# Altium footprint library PCB - CONNECTOR - MOLEX - MOLEX 1053131103.PcbLib: 1 footprints
Each footprint in its own frame and in the unit in brackets; x right, y up, seen from the top. Pads: shape width x height; smd on the part's side, far side on the other; paste and mask are expansions set on the pad; w line width, h text height; cw(c..) or ccw(c..) is an arc to the next point about the centre after c.
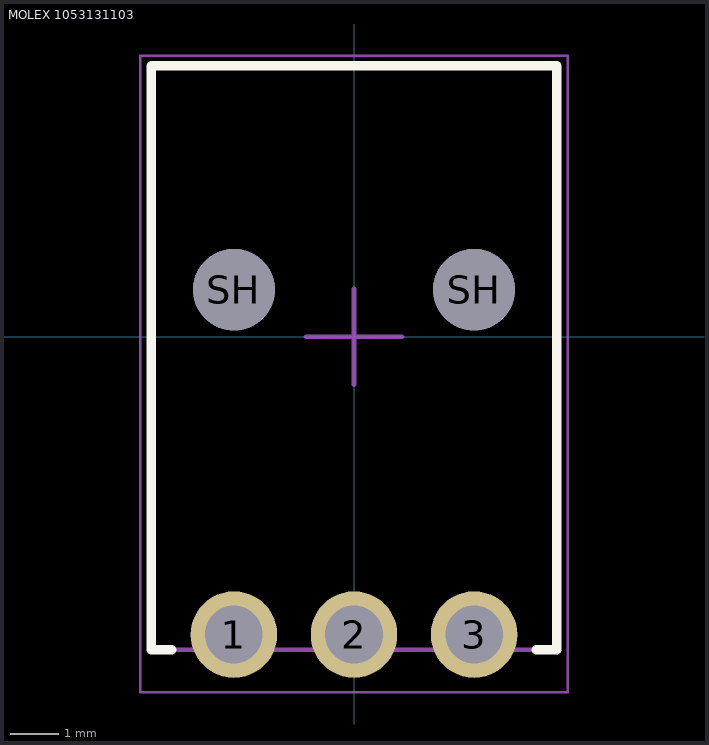
[diagram p0: the footprint, top view; thin cyan lines are the x and y axes]

## MOLEX 1053131103 [mm] "Connector Header Through Hole, Right Angle 3 position, 2mm Pitch, 8.44x8.64 mm Body"
height 6.64
pads (5):
  round 1.8 hole 1.2: 1(-2.5,-6.2) 2(0,-6.2) 3(2.5,-6.2)
  round 1.7 hole 1.7: SH(-2.5,0.98) SH(2.5,0.98)
Top Overlay:
  lines w0.2: -3.8,-6.517 -4.22,-6.517 -4.22,5.64 4.22,5.64 4.22,-6.517 3.8,-6.517
Mechanical 1:
  lines w0.1: -4.22,-6.517 4.22,-6.517 4.22,5.64 -4.22,5.64 -4.22,-6.517
Mechanical 15 (Mech15):
  lines w0.05: -4.45,-7.4 4.45,-7.4 4.45,5.85 -4.45,5.85 -4.45,-7.4
  lines w0.1: -1,0 0,0 ; 0,-1 0,0 ; 0,1 0,0 ; 1,0 0,0
3D body: height 6.64, standoff -3.2, extent -4.22,-6.517 4.22,5.64